# Altium footprint library PCB - LEADED - DW0018A_L.PCBLIB: 1 footprints
Each footprint in its own frame and in the unit in brackets; x right, y up, seen from the top. Pads: shape width x height; smd on the part's side, far side on the other; paste and mask are expansions set on the pad; w line width, h text height; cw(c..) or ccw(c..) is an arc to the next point about the centre after c.
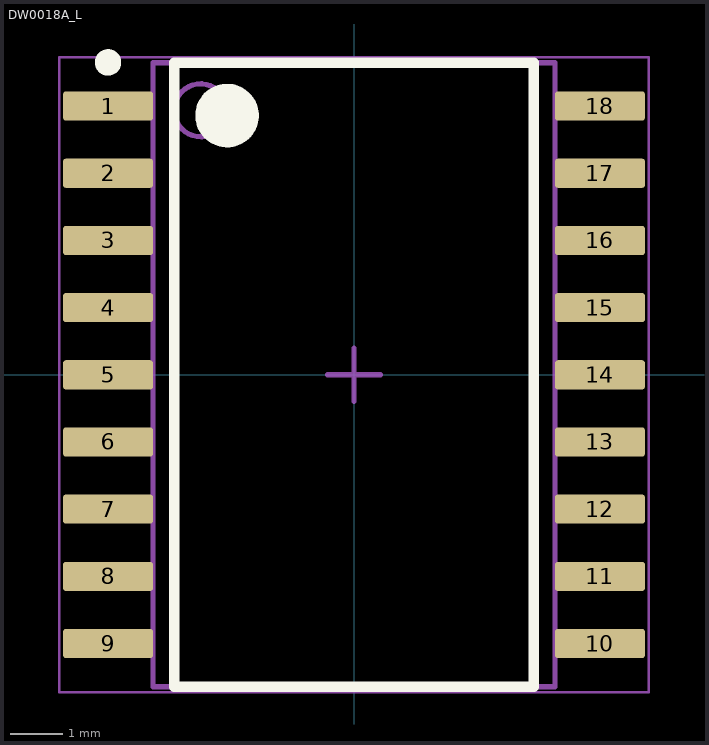
[diagram p0: the footprint, top view; thin cyan lines are the x and y axes]

## DW0018A_L [mm] "SOIC, 18-Leads, Body 11.8x7.6mm, Pitch 1.27mm, IPC High Density"
height 2.65
pads (18):
  rrect18% 1.7x0.55 smd: 1(-4.65,5.08) 2(-4.65,3.81) 3(-4.65,2.54) 4(-4.65,1.27) 5(-4.65,0) 6(-4.65,-1.27) 7(-4.65,-2.54) 8(-4.65,-3.81) 9(-4.65,-5.08) 10(4.65,-5.08) 11(4.65,-3.81) 12(4.65,-2.54) 13(4.65,-1.27) 14(4.65,0) 15(4.65,1.27) 16(4.65,2.54) 17(4.65,3.81) 18(4.65,5.08)
Top Overlay:
  circle w0.25: c-4.65,5.905 r0.125
  circle w0.6: c-2.4,4.9 r0.3
  lines w0.2: -3.4,-5.9 -3.4,5.9 3.4,5.9 3.4,-5.9 -3.4,-5.9
Top Assembly:
  circle w0.1: c-2.9,5 r0.5
  lines w0.1: -3.8,-5.9 -3.8,5.9 3.8,5.9 3.8,-5.9 -3.8,-5.9
Top Courtyard:
  lines w0.05: -5.575,-6 -5.575,6 5.575,6 5.575,-6 -5.575,-6
Top Designator:
  text ".Designator" at -5.461,6.477 h1.2
Top Component Center:
  lines w0.1: -0.5,0 0.5,0 ; 0,-0.5 0,0.5
3D body: height 2.65, standoff 0.1, extent -3.8,-5.9 3.8,5.9